# Altium footprint library LMR34206FSC5RNXTQ1.PcbLib: 1 footprints
Each footprint in its own frame and in the unit in brackets; x right, y up, seen from the top. Pads: shape width x height; smd on the part's side, far side on the other; paste and mask are expansions set on the pad; w line width, h text height; cw(c..) or ccw(c..) is an arc to the next point about the centre after c.
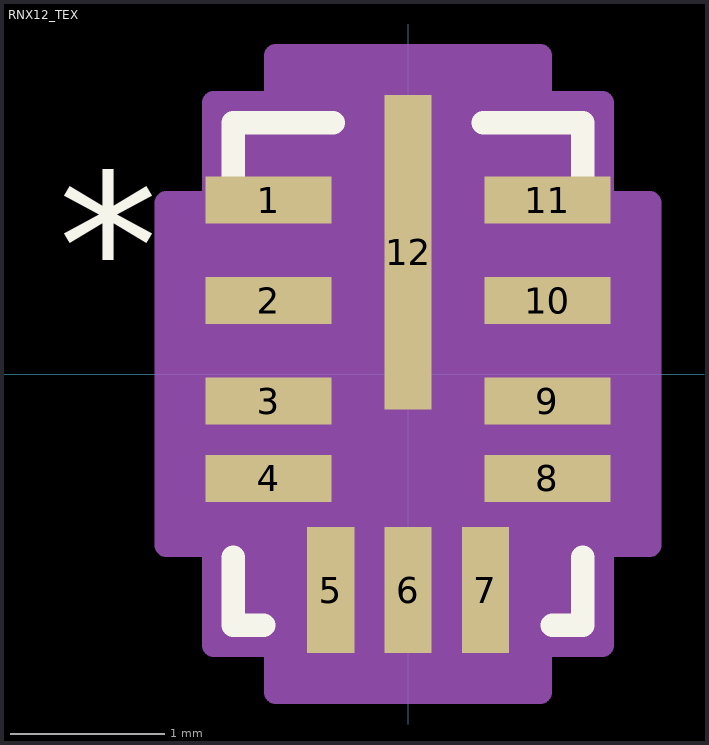
[diagram p0: the footprint, top view; thin cyan lines are the x and y axes]

## RNX12_TEX [mil]
pads (12):
  rect 32x12 smd paste+0 mask+0: 1(-35.5,44.29) 2(-35.5,18.7) 3(-35.5,-6.89) 4(-35.5,-26.57) 8(35.5,-26.57) 9(35.5,-6.89) 10(35.5,18.7) 11(35.5,44.29)
  rect 12x32 smd paste+0 mask+0: 5(-19.68,-55) 6(0,-55) 7(19.68,-55)
  rect 12x80 smd paste+0 mask+0: 12(0,31.02)
Top Overlay:
  lines w6: -44.5,-46.63 -44.5,-64 -36.78,-64 ; -44.5,46.63 -44.5,64 -19.1,64 ; 19.1,64 44.5,64 44.5,46.63 ; 36.78,-64 44.5,-64 44.5,-46.63
  text "*" at -89,14.37 h50
  text ".Designator" at -137.5,-25 h50
Mechanical 13:
  lines w1: -39.5,9 10.5,59 ; -39.5,-59 39.5,-59 ; -39.5,-59 -39.5,59 ; -39.5,-59 -39.5,-59 ; -39.5,-35.53 -39.5,-23.53 ; -39.5,-35.53 -39.5,-23.53 ; -39.5,-35.53 -39.5,-35.53 ; -39.5,-23.53 -39.5,-23.53 ; -39.5,-15.84 -39.5,-3.84 ; -39.5,-15.84 -39.5,-3.84 ; -39.5,-15.84 -39.5,-15.84 ; -39.5,-3.84 -39.5,-3.84 ; -39.5,3.84 -39.5,15.84 ; -39.5,3.84 -39.5,15.84 ; -39.5,3.84 -39.5,3.84 ; -39.5,15.84 -39.5,15.84 ; -39.5,23.53 -39.5,35.53 ; -39.5,23.53 -39.5,35.53 ; -39.5,23.53 -39.5,23.53 ; -39.5,35.53 -39.5,35.53 ; -39.5,59 39.5,59 ; -39.5,59 -39.5,59 ; -25.68,-59 -13.69,-59 ; -25.68,-59 -25.68,-59 ; -25.68,-59 -13.69,-59 ; -25.68,59 -13.69,59 ; -25.68,59 -13.69,59 ; -25.68,59 -25.68,59 ; -13.69,-59 -13.69,-59 ; -13.69,59 -13.69,59 ; -6,-59 6,-59 ; -6,-59 -6,-59 ; -6,-59 6,-59 ; -6,59 6,59 ; -6,59 6,59 ; -6,59 -6,59 ; 6,-59 6,-59 ; 6,59 6,59 ; 13.69,-59 25.68,-59 ; 13.69,-59 13.69,-59 ; 13.69,-59 25.68,-59 ; 13.69,59 25.68,59 ; 13.69,59 25.68,59 ; 13.69,59 13.69,59 ; 25.68,-59 25.68,-59 ; 25.68,59 25.68,59 ; 39.5,-59 39.5,-59 ; 39.5,-59 39.5,59 ; 39.5,-35.53 39.5,-23.53 ; 39.5,-35.53 39.5,-35.53 ; 39.5,-35.53 39.5,-23.53 ; 39.5,-23.53 39.5,-23.53 ; 39.5,-15.84 39.5,-3.84 ; 39.5,-15.84 39.5,-15.84 ; 39.5,-15.84 39.5,-3.84 ; 39.5,-3.84 39.5,-3.84 ; 39.5,3.84 39.5,15.84 ; 39.5,3.84 39.5,3.84 ; 39.5,3.84 39.5,15.84 ; 39.5,15.84 39.5,15.84 ; 39.5,23.53 39.5,35.53 ; 39.5,23.53 39.5,23.53 ; 39.5,23.53 39.5,35.53 ; 39.5,35.53 39.5,35.53 ; 39.5,59 39.5,59
  text ".Designator" at -137.5,-25 h50
  text "*" at -32,14.37 h50
Mechanical 15:
  region: -33.69,-69 -49.5,-69 -49.5,-43.53 -61.5,-43.53 -61.5,43.53 -49.5,43.53 -49.5,69 -33.69,69 -33.69,81 33.69,81 33.69,69 49.5,69 49.5,43.53 61.5,43.53 61.5,-43.53 49.5,-43.53 49.5,-69 33.69,-69 33.69,-81 -33.69,-81
  lines w6: -61.5,-43.53 -49.5,-43.53 -49.5,-69 -33.69,-69 -33.69,-81 33.69,-81 33.69,-69 49.5,-69 49.5,-43.53 61.5,-43.53 61.5,43.53 49.5,43.53 49.5,69 33.69,69 33.69,81 -33.69,81 -33.69,69 -49.5,69 -49.5,43.53 -61.5,43.53 -61.5,-43.53